# Altium schematic symbol library CG04874-8M.SchLib: 2 symbols
Pins are listed as number, name and electrical type; pins without a type are passive.

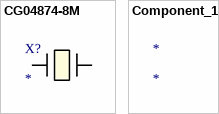
[diagram p0: symbols CG04874-8M to Component_1]

## CG04874-8M
designator X?
No Description Available; Mfr_Name: NDK; Type: Crystals
footprint XTAL_CG04874_NDK-L
pins: 1, 2

## Component_1
designator *